# Altium footprint library eGPU Solusions Package.PcbLib: 47 footprints (part 3 of 3)
Each footprint in its own frame and in the unit in brackets; x right, y up, seen from the top. Pads: shape width x height; smd on the part's side, far side on the other; paste and mask are expansions set on the pad; w line width, h text height; cw(c..) or ccw(c..) is an arc to the next point about the centre after c.
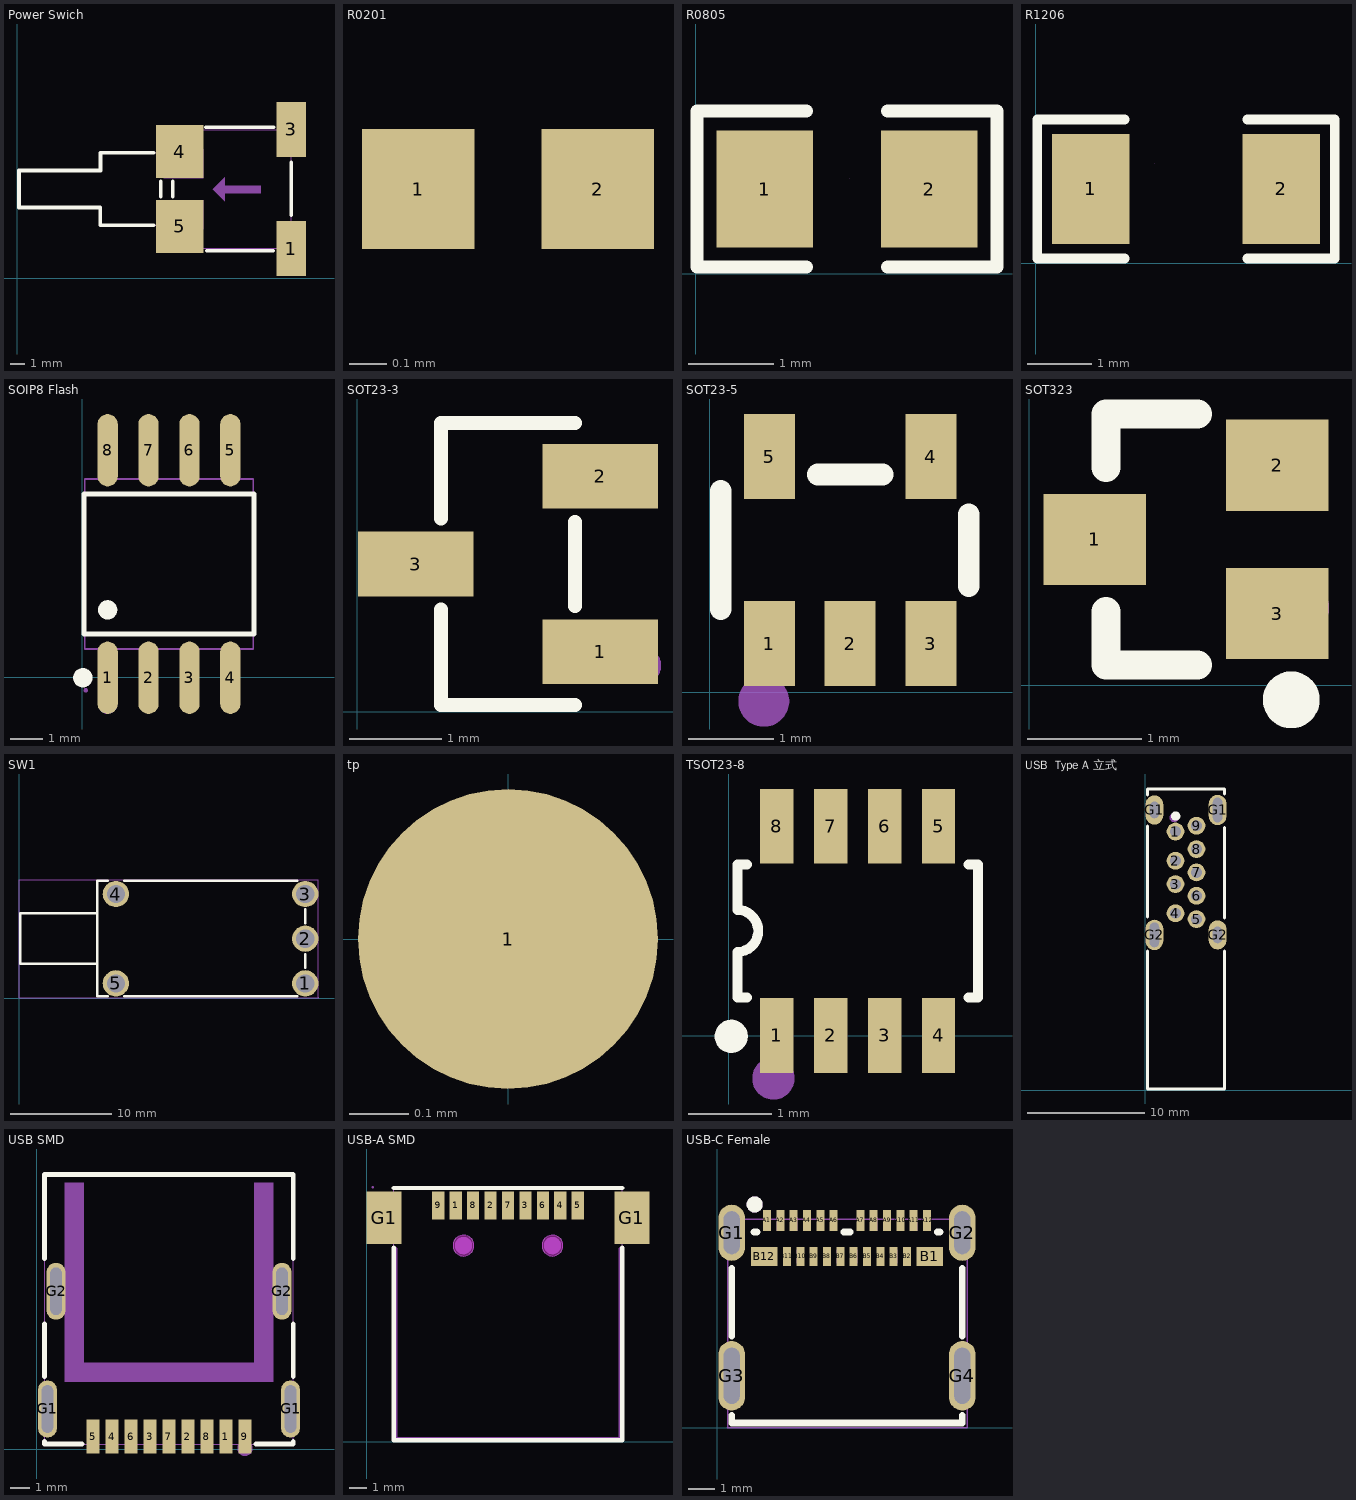
[diagram p2: the footprints below, top view; thin cyan lines are the x and y axes]

## Power Swich [mm]
pads (4):
  rect 2.03x3.81 smd mask+0.051: 1(18.879,2.032) 3(18.879,10.232)
  rect 3.25x3.63 smd mask+0.051: 4(11.194,8.712) 5(11.194,3.552)
Top Overlay:
  lines w0.254: 9.407,3.632 5.727,3.632 5.727,4.862 0.127,4.862 0.127,7.402 5.737,7.402 5.737,8.632 9.407,8.632 ; 9.879,5.598 9.879,6.666 ; 10.719,5.598 10.719,6.666 ; 12.983,10.379 17.664,10.379 ; 13.051,1.88 17.633,1.88 ; 18.877,4.332 18.877,7.982
Mechanical 6:
  region: 14.23,5.848 14.23,6.356 16.77,6.356 16.77,5.848
  region: 14.294,5.277 14.294,6.801 14.294,6.928 14.167,6.801 13.468,6.102
Mechanical 15:
  region: 10.08,6.855 12.82,6.855 12.821,8.877 10.58,8.867 10.59,10.197 10.08,10.197
  region: 10.08,5.367 12.819,5.367 12.82,3.346 10.579,3.355 10.589,2.067 10.08,2.067
  region: 18.499,3.377 19.259,3.377 19.259,0.927 18.499,0.927
  region: 18.499,11.337 19.259,11.337 19.259,8.887 18.499,8.887
  region: 19.319,0.927 19.319,0.952 19.284,0.987 19.235,0.987 19.2,0.952 19.2,0.927 19.2,0.903 19.235,0.867 19.284,0.867 19.319,0.903
  lines w0.051: 0.13,4.862 5.73,4.862 5.73,3.632 10.08,3.632 10.08,2.067 18.88,2.067 18.88,10.197 10.08,10.197 10.08,8.622 5.73,8.622 5.73,7.352 0.13,7.402 0.13,4.862

## R0201 [mm]
pads (2):
  rect 0.303x0.324 smd: 1(0.453,0.467) 2(0.937,0.467)
Top Paste:
  region: 0.614,0.329 0.614,0.605 0.59,0.629 0.326,0.629 0.302,0.605 0.302,0.329 0.326,0.305 0.59,0.305
  region: 0.776,0.329 0.776,0.605 0.8,0.629 1.064,0.629 1.088,0.605 1.088,0.329 1.064,0.305 0.8,0.305
Mechanical 15:
  lines w0.003: 0.315,0.594 0.316,0.594

## R0805 [mm]
pads (2):
  rect 1.133x1.377 smd: 1(0.812,0.993) 2(2.744,0.993)
Top Overlay:
  lines w0.152: 1.302,0.076 0.017,0.076 0.017,1.91 1.302,1.91 ; 2.254,0.076 3.539,0.076 3.539,1.91 2.254,1.91
Top Paste:
  region: 2.228,0.353 2.228,0.773 2.673,0.773 2.673,1.223 2.233,1.223 2.228,1.633 2.278,1.683 3.428,1.683 3.478,1.633 3.478,0.353 3.428,0.303 2.278,0.303
  region: 0.078,0.353 0.078,1.633 0.128,1.683 1.278,1.683 1.328,1.633 1.333,1.223 0.883,1.223 0.883,0.773 1.323,0.773 1.328,0.353 1.278,0.303 0.128,0.303
Mechanical 15:
  lines w0.003: 1.807,1.12 1.808,1.121

## R1206 [mm]
pads (2):
  rect 1.208x1.701 smd: 1(0.858,1.155) 2(3.816,1.155)
Top Overlay:
  lines w0.152: 1.386,0.076 0.026,0.076 0.026,2.234 1.386,2.234 ; 3.288,0.076 4.648,0.076 4.648,2.234 3.288,2.234
Top Paste:
  region: 1.462,0.405 1.462,0.766 1.362,0.866 1.151,0.866 1.051,0.966 1.051,1.344 1.151,1.444 1.362,1.444 1.462,1.544 1.462,1.906 1.362,2.006 0.354,2.006 0.254,1.906 0.254,0.405 0.354,0.305 1.362,0.305
  region: 3.212,0.405 3.212,0.766 3.312,0.866 3.522,0.866 3.622,0.966 3.622,1.344 3.522,1.444 3.312,1.444 3.212,1.544 3.212,1.906 3.312,2.006 4.319,2.006 4.419,1.906 4.419,0.405 4.319,0.305 3.312,0.305
Mechanical 15:
  lines w0.003: 1.854,1.549 1.854,1.549

## SOIP8 Flash [mm]
pads (8):
  oval 0.63x2.25 smd paste+0 mask+0.051: 1(0.79,-0.018) 2(2.06,-0.018) 3(3.33,-0.018) 4(4.6,-0.018) 5(4.6,7.042) 6(3.33,7.042) 7(2.06,7.042) 8(0.79,7.042)
Top Overlay:
  circle w0.3: c0.023,-0.018 r0.15
  circle w0.3: c0.79,2.088 r0.15
  lines w0.152: 0.057,1.336 5.334,1.336 5.334,5.688 0.057,5.688 0.057,1.336
Mechanical 6:
  circle w0.3: c0.79,-0.838 r0.15
Mechanical 15:
  region: 4.375,6.822 4.375,6.107 4.825,6.107 4.825,6.822
  region: 4.375,7.462 4.375,6.812 4.825,6.812 4.825,7.462
  region: 3.105,6.822 3.105,6.107 3.555,6.107 3.555,6.822
  region: 3.105,7.462 3.105,6.812 3.555,6.812 3.555,7.462
  region: 1.835,6.822 1.835,6.107 2.285,6.107 2.285,6.822
  region: 1.835,7.462 1.835,6.812 2.285,6.812 2.285,7.462
  region: 0.565,6.822 0.565,6.107 1.015,6.107 1.015,6.822
  region: 0.565,7.462 0.565,6.812 1.015,6.812 1.015,7.462
  region: 4.375,0.202 4.375,0.917 4.825,0.917 4.825,0.202
  region: 4.375,-0.438 4.375,0.212 4.825,0.212 4.825,-0.438
  region: 3.105,0.202 3.105,0.917 3.555,0.917 3.555,0.202
  region: 3.105,-0.438 3.105,0.212 3.555,0.212 3.555,-0.438
  region: 1.835,0.202 1.835,0.917 2.285,0.917 2.285,0.202
  region: 1.835,-0.438 1.835,0.212 2.285,0.212 2.285,-0.438
  region: 0.565,0.202 0.565,0.917 1.015,0.917 1.015,0.202
  region: 0.565,-0.438 0.565,0.212 1.015,0.212 1.015,-0.438
  region: 0.17,-0.408 0.17,-0.383 0.135,-0.348 0.086,-0.348 0.05,-0.383 0.05,-0.408 0.05,-0.433 0.086,-0.468 0.135,-0.468 0.17,-0.433
  lines w0.051: 0.08,0.872 5.31,0.872 5.31,6.152 0.08,6.152 0.08,0.872

## SOT23-3 [mm]
pads (3):
  rect 1.25x0.7 smd: 1(2.631,0.652) 2(2.631,2.552) 3(0.631,1.602)
Top Overlay:
  lines w0.152: 0.905,1.108 0.905,0.076 2.357,0.076 ; 0.905,2.097 0.905,3.129 2.357,3.129 ; 2.357,1.147 2.357,2.058
Mechanical 15:
  circle w0.2: c3.091,0.502 r0.1

## SOT23-5 [mm]
pads (5):
  rect 0.6x1 smd: 1(0.701,0.574) 2(1.651,0.574) 3(2.601,0.574) 4(2.601,2.774) 5(0.701,2.774)
Top Overlay:
  lines w0.254: 0.127,0.976 0.127,2.373 ; 1.27,2.563 2.032,2.563 ; 3.048,1.252 3.048,2.097
Mechanical 15:
  circle w0.3: c0.635,-0.104 r0.15

## SOT323 [mm]
pads (3):
  rect 0.9x0.8 smd: 1(0.577,1.277) 2(2.177,1.927) 3(2.177,0.627)
Top Overlay:
  lines w0.249: 2.299,-0.005 ccw(c2.3,-0.13) 2.302,-0.005
  lines w0.254: 0.677,0.646 0.677,0.177 1.477,0.177 ; 0.677,1.908 0.677,2.377 1.477,2.377
Mechanical 15:
  circle w0.254: c2.377,0.677 r0.127

## SW1 [mm]
pads (5):
  round 2.601 hole 1.801 mask+0.051: 1(28.326,1.483) 2(28.326,5.903) 3(28.326,10.323) 4(9.586,10.323) 5(9.586,1.483)
Top Overlay:
  lines w0.254: 7.747,3.404 0.127,3.404 0.127,8.402 7.747,8.402 ; 8.771,0.188 7.747,0.188 7.747,11.618 8.771,11.618 ; 10.401,0.188 27.511,0.188 ; 10.401,11.618 27.511,11.618 ; 28.326,3.015 28.326,4.371 ; 28.326,7.435 28.326,8.791
Mechanical 15:
  region: 29.688,0.061 29.688,0.086 29.652,0.122 29.601,0.122 29.566,0.086 29.566,0.061 29.566,0.036 29.601,0 29.652,0 29.688,0.036
  region: 10.386,1.483 10.386,1.589 10.332,1.792 10.226,1.975 10.077,2.124 9.895,2.229 9.691,2.283 9.481,2.283 9.277,2.229 9.095,2.124 8.946,1.975 8.84,1.792 8.786,1.589 8.786,1.483 8.786,1.378 8.84,1.175 8.946,0.992 9.095,0.843 9.277,0.738 9.481,0.683 9.691,0.683 9.895,0.738 10.077,0.843 10.226,0.992 10.332,1.175 10.386,1.378
  region: 10.386,10.323 10.386,10.428 10.332,10.631 10.226,10.814 10.077,10.963 9.895,11.068 9.691,11.123 9.481,11.123 9.277,11.068 9.095,10.963 8.946,10.814 8.84,10.631 8.786,10.428 8.786,10.323 8.786,10.217 8.84,10.014 8.946,9.831 9.095,9.682 9.277,9.577 9.481,9.522 9.691,9.522 9.895,9.577 10.077,9.682 10.226,9.831 10.332,10.014 10.386,10.217
  region: 29.126,10.323 29.126,10.428 29.072,10.631 28.966,10.814 28.817,10.963 28.635,11.068 28.431,11.123 28.221,11.123 28.017,11.068 27.835,10.963 27.686,10.814 27.581,10.631 27.526,10.428 27.526,10.323 27.526,10.217 27.581,10.014 27.686,9.831 27.835,9.682 28.017,9.577 28.221,9.522 28.431,9.522 28.635,9.577 28.817,9.682 28.966,9.831 29.072,10.014 29.126,10.217
  region: 29.126,5.903 29.126,6.008 29.072,6.212 28.966,6.394 28.817,6.543 28.635,6.649 28.431,6.703 28.221,6.703 28.017,6.649 27.835,6.543 27.686,6.394 27.581,6.212 27.526,6.008 27.526,5.903 27.526,5.798 27.581,5.594 27.686,5.412 27.835,5.263 28.017,5.157 28.221,5.103 28.431,5.103 28.635,5.157 28.817,5.263 28.966,5.412 29.072,5.594 29.126,5.798
  region: 29.126,1.483 29.126,1.589 29.072,1.792 28.966,1.975 28.817,2.124 28.635,2.229 28.431,2.283 28.221,2.283 28.017,2.229 27.835,2.124 27.686,1.975 27.581,1.792 27.526,1.589 27.526,1.483 27.526,1.378 27.581,1.175 27.686,0.992 27.835,0.843 28.017,0.738 28.221,0.683 28.431,0.683 28.635,0.738 28.817,0.843 28.966,0.992 29.072,1.175 29.126,1.378
  lines w0.051: 0,0.061 0,11.745 29.627,11.745 29.627,0.061 0,0.061

## tp [mil]
pads (1):
  round 20 smd: 1(0,0)
Mechanical 9:
  text "V" at 0,-4 h10
Mechanical 14:
  text "1" at 0,-4 h10

## TSOT23-8 [mm]
pads (8):
  rect 0.4x0.9 smd paste+0 mask+0.051: 1(0.581,0.006) 2(1.231,0.006) 3(1.881,0.006) 4(2.531,0.006) 5(2.531,2.526) 6(1.881,2.526) 7(1.231,2.526) 8(0.581,2.526)
Top Overlay:
  circle w0.2: c0.032,-0.004 r0.1
  lines w0.12: 0.105,1.011 ccw(c0.103,1.265) 0.106,1.52 0.106,2.066 0.221,2.066 ; 0.106,1.012 0.106,0.466 0.221,0.466 ; 2.89,0.466 3.006,0.466 3.006,2.066 2.89,2.066
Mechanical 15:
  circle w0.254: c0.54,-0.512 r0.127

## USB  Type A 立式 [mil]
pads (13):
  round 60 hole 36: 1(102.6,873.11) 2(102.6,774.68) 3(102.6,695.94) 4(102.6,597.51) 5(173.47,577.83) 6(173.47,656.57) 7(173.47,735.31) 8(173.47,814.05) 9(173.47,892.79)
  oval 60x98.42 hole 31.5 slot 55.12 at 90 deg: G1(31.34,945.94) G2(244.72,524.68)
  oval 60x102.36 hole 31.5 slot 82.68 at 90 deg: G1(244.72,945.94) G2(31.34,524.68)
Top Overlay:
  circle w15.75: c103.03,925.31 r7.87
  lines w10: 8.03,585.31 8.03,891.36 ; 8.12,469.77 8.12,5.35 267.89,5.35 268.24,5 268.24,469.8 267.96,470.08 ; 8.12,997.09 8.12,1016.53 8.22,1016.64 267.96,1016.64 267.96,1000.1 ; 267.96,580.91 267.96,886.96
Mechanical 15:
  circle w15.75: c98.03,920.31 r7.87

## USB SMD [mm]
pads (13):
  rect 0.7x1.8 smd mask+0.05: 1(9.955,0.673) 2(7.955,0.673) 3(5.955,0.673) 4(3.955,0.673) 5(2.955,0.673) 6(4.955,0.673) 7(6.955,0.673) 8(8.955,0.673) 9(10.955,0.673)
  oval 1x3 hole 0.6 slot 2.5 at 90 deg mask+0.05: G1(0.555,2.123) G1(13.355,2.123) G2(1.005,8.323) G2(12.905,8.323)
Top Overlay:
  lines w0.254: 0.405,0.407 0.405,0.278 2.374,0.278 ; 0.405,3.839 0.405,6.608 ; 0.405,10.039 0.405,14.478 13.495,14.468 13.495,10.041 ; 11.536,0.278 13.495,0.278 13.495,0.405 ; 13.495,3.841 13.495,6.606
Top Paste:
  region: 11.305,-0.227 10.605,-0.227 10.605,1.573 11.305,1.573
  region: 9.305,-0.227 8.605,-0.227 8.605,1.573 9.305,1.573
  region: 7.305,-0.227 6.605,-0.227 6.605,1.573 7.305,1.573
  region: 5.305,-0.227 4.605,-0.227 4.605,1.573 5.305,1.573
  region: 3.305,-0.227 2.605,-0.227 2.605,1.573 3.305,1.573
  region: 4.305,-0.227 3.605,-0.227 3.605,1.573 4.305,1.573
  region: 6.305,-0.227 5.605,-0.227 5.605,1.573 6.305,1.573
  region: 8.305,-0.227 7.605,-0.227 7.605,1.573 8.305,1.573
  region: 10.305,-0.227 9.605,-0.227 9.605,1.573 10.305,1.573
  region: 13.405,7.323 13.404,7.224 13.327,7.042 13.187,6.903 13.004,6.828 12.806,6.828 12.623,6.903 12.483,7.042 12.406,7.224 12.405,7.323 12.405,9.323 12.406,9.422 12.483,9.604 12.623,9.743 12.806,9.818 13.004,9.818 13.187,9.743 13.327,9.604 13.404,9.422 13.405,9.323
  region: 1.505,7.323 1.504,7.224 1.427,7.042 1.287,6.903 1.104,6.828 0.906,6.828 0.723,6.903 0.583,7.042 0.506,7.224 0.505,7.323 0.505,9.323 0.506,9.422 0.583,9.604 0.723,9.743 0.906,9.818 1.104,9.818 1.287,9.743 1.427,9.604 1.504,9.422 1.505,9.323
  region: 13.855,1.123 13.854,1.024 13.777,0.842 13.637,0.702 13.454,0.627 13.256,0.627 13.073,0.702 12.932,0.842 12.856,1.024 12.855,1.123 12.855,3.123 12.856,3.222 12.932,3.405 13.073,3.544 13.256,3.62 13.454,3.62 13.637,3.544 13.777,3.405 13.854,3.222 13.855,3.123
  region: 1.055,1.123 1.055,1.024 0.979,0.84 0.838,0.699 0.654,0.623 0.455,0.623 0.272,0.699 0.131,0.84 0.055,1.024 0.055,1.123 0.055,3.123 0.055,3.223 0.131,3.407 0.272,3.547 0.455,3.623 0.654,3.623 0.838,3.547 0.979,3.407 1.055,3.223 1.055,3.123
Mechanical 6:
  circle w0.4: c10.955,0.048 r0.2
  region: 12.455,14.048 12.455,3.548 11.455,3.548 11.455,14.048
  region: 1.455,14.048 1.455,3.548 2.455,3.548 2.455,14.048
  region: 11.455,3.548 2.455,3.548 2.455,4.548 11.455,4.548
Mechanical 15:
  region: 13.445,0.273 13.445,0.248 13.48,0.213 13.53,0.213 13.565,0.248 13.565,0.273 13.565,0.298 13.53,0.333 13.48,0.333 13.445,0.298
  region: 13.505,1.173 13.205,1.173 13.205,3.073 13.505,3.073
  region: 0.705,1.173 0.405,1.173 0.405,3.073 0.705,3.073
  region: 11.155,0.273 10.755,0.273 10.755,1.473 11.155,1.473
  region: 9.155,0.273 8.755,0.273 8.755,1.473 9.155,1.473
  region: 7.155,0.273 6.755,0.273 6.755,1.473 7.155,1.473
  region: 5.155,0.273 4.755,0.273 4.755,1.473 5.155,1.473
  region: 3.155,0.273 2.755,0.273 2.755,1.473 3.155,1.473
  region: 4.155,0.273 3.755,0.273 3.755,1.473 4.155,1.473
  region: 6.155,0.273 5.755,0.273 5.755,1.473 6.155,1.473
  region: 8.155,0.273 7.755,0.273 7.755,1.473 8.155,1.473
  region: 10.155,0.273 9.755,0.273 9.755,1.473 10.155,1.473
  region: 1.155,7.353 0.855,7.353 0.855,9.293 1.155,9.293
  region: 13.055,7.353 12.755,7.353 12.755,9.293 13.055,9.293
  lines w0.051: 0.405,0.273 13.505,0.273 13.505,14.473 0.405,14.473 0.405,0.273

## USB-A SMD [mm]
pads (11):
  rect 0.7x1.6 smd mask+0.05: 1(5.1,13.558) 2(7.1,13.558) 3(9.1,13.558) 4(11.1,13.558) 5(12.1,13.558) 6(10.1,13.558) 7(8.1,13.558) 8(6.1,13.558) 9(4.1,13.558)
  rect 2x3 smd mask+0.05: G1(1,12.858) G1(15.2,12.858)
Top Overlay:
  lines w0.254: 1.55,3.558 1.55,11.127 ; 1.55,3.733 1.55,0.108 14.65,0.108 14.65,3.699 ; 1.55,14.558 14.65,14.558 ; 14.65,3.558 14.65,11.127
Keep-Out Layer:
  board cut-out: 6.15,11.258 6.15,11.377 6.059,11.598 5.89,11.767 5.669,11.858 5.431,11.858 5.21,11.767 5.041,11.598 4.95,11.377 4.95,11.258 4.95,11.139 5.041,10.918 5.21,10.749 5.431,10.658 5.669,10.658 5.89,10.749 6.059,10.918 6.15,11.139
  board cut-out: 11.25,11.258 11.25,11.377 11.159,11.598 10.99,11.767 10.769,11.858 10.531,11.858 10.31,11.767 10.141,11.598 10.05,11.377 10.05,11.258 10.05,11.139 10.141,10.918 10.31,10.749 10.531,10.658 10.769,10.658 10.99,10.749 11.159,10.918 11.25,11.139
Mechanical 1:
  circle w0.005: c5.55,11.258 r0.6
  circle w0.005: c10.65,11.258 r0.6
Mechanical 6:
  circle w0.5: c5.55,11.258 r0.25
  circle w0.5: c10.65,11.258 r0.25
  region: 1.75,11.049 1.75,0.254 14.45,0.254 14.45,11.049 14.45,11.102 14.524,11.176 14.63,11.176 14.704,11.102 14.704,11.049 14.704,0.127 14.704,0.102 14.685,0.055 14.649,0.019 14.602,0 14.577,0 1.623,0 1.598,0 1.551,0.019 1.515,0.055 1.496,0.102 1.496,0.127 1.496,11.049 1.496,11.102 1.57,11.176 1.676,11.176 1.75,11.102
Mechanical 15:
  region: 0.41,14.608 0.41,14.633 0.375,14.668 0.325,14.668 0.29,14.633 0.29,14.608 0.29,14.583 0.325,14.548 0.375,14.548 0.41,14.583
  region: 0.35,14.108 1.65,14.108 1.65,11.608 0.35,11.608
  region: 14.55,14.108 15.85,14.108 15.85,11.608 14.55,11.608
  region: 3.925,14.208 4.275,14.208 4.275,12.908 3.925,12.908
  region: 4.925,14.208 5.275,14.208 5.275,12.908 4.925,12.908
  region: 5.925,14.208 6.275,14.208 6.275,12.908 5.925,12.908
  region: 6.925,14.208 7.275,14.208 7.275,12.908 6.925,12.908
  region: 7.925,14.208 8.275,14.208 8.275,12.908 7.925,12.908
  region: 8.925,14.208 9.275,14.208 9.275,12.908 8.925,12.908
  region: 9.925,14.208 10.275,14.208 10.275,12.908 9.925,12.908
  region: 10.925,14.208 11.275,14.208 11.275,12.908 10.925,12.908
  region: 11.925,14.208 12.275,14.208 12.275,12.908 11.925,12.908
  lines w0.051: 1.55,0.108 14.65,0.108 14.65,14.608 1.55,14.608 1.55,0.108

## USB-C Female [mm]
pads (28):
  rect 0.3x0.8 smd paste-100 mask+0.051: A1(1.862,7.76) A2(2.362,7.76) A3(2.862,7.76) A4(3.362,7.76) A5(3.862,7.76) A6(4.362,7.76) A7(5.362,7.76) A8(5.862,7.76) A9(6.362,7.76) A10(6.862,7.76) A11(7.362,7.76) A12(7.862,7.76)
  rect 1x0.7 smd paste-100 mask+0.05: B1(7.962,6.41) B12(1.762,6.41)
  rect 0.3x0.7 smd paste-100 mask+0.051: B2(7.112,6.41) B3(6.612,6.41) B4(6.112,6.41) B5(5.612,6.41) B6(5.112,6.41) B7(4.612,6.41) B8(4.112,6.41) B9(3.612,6.41) B10(3.112,6.41) B11(2.612,6.41)
  oval 1x2.1 hole 0.6 slot 1.6 at 90 deg paste+0 mask+0.05: G1(0.542,7.3) G2(9.182,7.3)
  oval 1x2.6 hole 0.6 slot 2.1 at 90 deg paste+0 mask+0.05: G3(0.542,1.94) G4(9.182,1.94)
Top Overlay:
  circle w0.3: c1.402,8.36 r0.15
  lines w0.254: 0.542,0.459 0.542,0.17 9.182,0.17 9.182,0.459 ; 0.542,3.421 0.542,5.969 ; 1.373,7.325 1.486,7.325 ; 4.741,7.325 4.988,7.325 ; 8.24,7.325 8.351,7.325 ; 9.182,3.421 9.182,5.969
Top Paste:
  drawing of 28 lines, arcs and shapes, not listed
Mechanical 6:
  circle w0.3: c1.402,8.36 r0.15
Mechanical 15:
  drawing of 36 lines, arcs and shapes, not listed